# EAGLE library part STM32F405ZGT6 (library Rebel)
IC, MCU, 32BIT, 1MB FLASH, 144LQFP
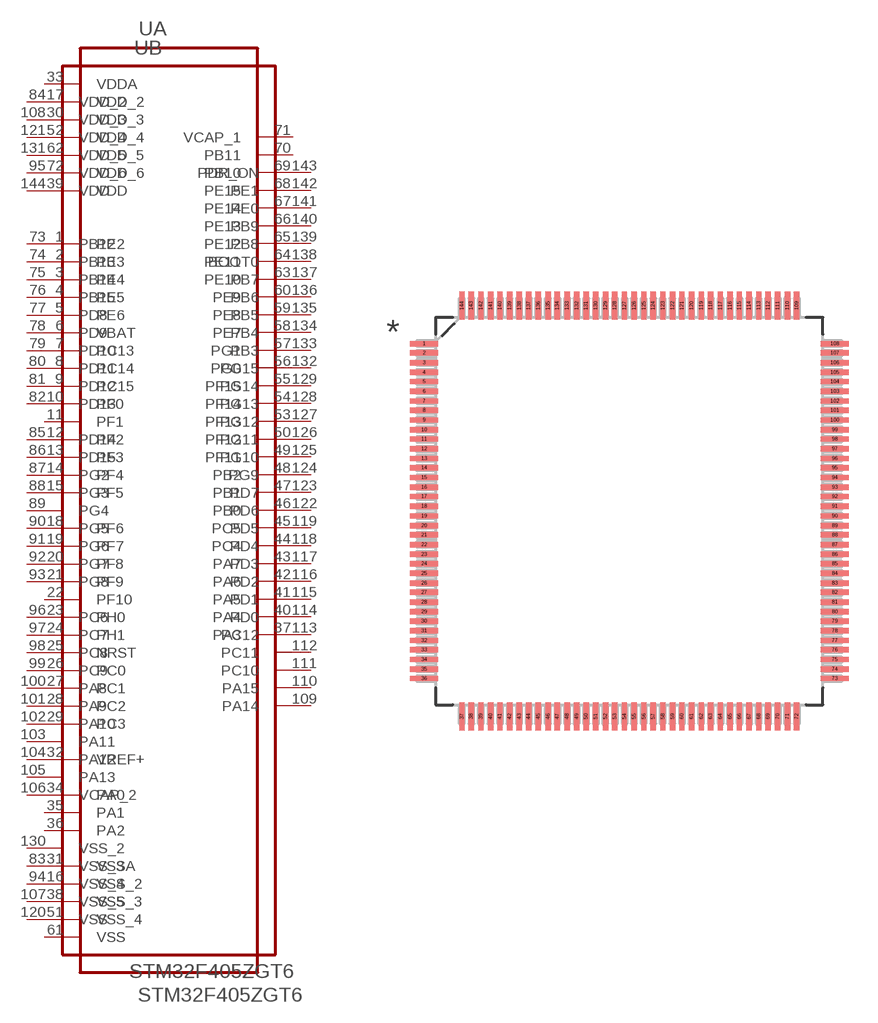
[diagram p3: symbol with the pads of QFP50P2200X2200X160-144N; footprint QFP50P2200X2200X160-144N]

Designator prefix U; gates A=STM32F405ZGT6_A B=STM32F405ZGT6_B

## STM32F405ZGT6 (MPN: STM32F405ZGT6; OC_FARNELL: 2215225; OC_NEWARK: 46W2200; PACKAGE: 144LQFP; SUPPLIER: STMicroelectronics)  [QFP50P2200X2200X160-144N]
1  A:PE2
2  A:PE3
3  A:PE4
4  A:PE5
5  A:PE6
6  A:VBAT  pas
7  A:PC13
8  A:PC14
9  A:PC15
10  A:PF0
11  A:PF1
12  A:PF2
13  A:PF3
14  A:PF4
15  A:PF5
16  A:VSS_2  pwr
17  A:VDD_2  pwr
18  A:PF6
19  A:PF7
20  A:PF8
21  A:PF9
22  A:PF10
23  A:PH0
24  A:PH1
25  A:NRST  pas
26  A:PC0
27  A:PC1
28  A:PC2
29  A:PC3
30  A:VDD_3  pwr
31  A:VSSA  pwr
32  A:VREF+  pas
33  A:VDDA  pwr
34  A:PA0
35  A:PA1
36  A:PA2
37  A:PA3
38  A:VSS_3  pwr
39  A:VDD  pwr
40  A:PA4
41  A:PA5
42  A:PA6
43  A:PA7
44  A:PC4
45  A:PC5
46  A:PB0
47  A:PB1
48  A:PB2
49  A:PF11
50  A:PF12
51  A:VSS_4  pwr
52  A:VDD_4  pwr
53  A:PF13
54  A:PF14
55  A:PF15
56  A:PG0
57  A:PG1
58  A:PE7
59  A:PE8
60  A:PE9
61  A:VSS  pwr
62  A:VDD_5  pwr
63  A:PE10
64  A:PE11
65  A:PE12
66  A:PE13
67  A:PE14
68  A:PE15
69  A:PB10
70  A:PB11
71  A:VCAP_1  pas
72  A:VDD_6  pwr
73  B:PB12
74  B:PB13
75  B:PB14
76  B:PB15
77  B:PD8
78  B:PD9
79  B:PD10
80  B:PD11
81  B:PD12
82  B:PD13
83  B:VSS_3  pwr
84  B:VDD_2  pwr
85  B:PD14
86  B:PD15
87  B:PG2
88  B:PG3
89  B:PG4
90  B:PG5
91  B:PG6
92  B:PG7
93  B:PG8
94  B:VSS_4  pwr
95  B:VDD_6  pwr
96  B:PC6
97  B:PC7
98  B:PC8
99  B:PC9
100  B:PA8
101  B:PA9
102  B:PA10
103  B:PA11
104  B:PA12
105  B:PA13
106  B:VCAP_2  pas
107  B:VSS_5  pwr
108  B:VDD_3  pwr
109  B:PA14
110  B:PA15
111  B:PC10
112  B:PC11
113  B:PC12
114  B:PD0
115  B:PD1
116  B:PD2
117  B:PD3
118  B:PD4
119  B:PD5
120  B:VSS  pwr
121  B:VDD_4  pwr
122  B:PD6
123  B:PD7
124  B:PG9
125  B:PG10
126  B:PG11
127  B:PG12
128  B:PG13
129  B:PG14
130  B:VSS_2  pwr
131  B:VDD_5  pwr
132  B:PG15
133  B:PB3
134  B:PB4
135  B:PB5
136  B:PB6
137  B:PB7
138  B:BOOT0  pas
139  B:PB8
140  B:PB9
141  B:PE0
142  B:PE1
143  B:PDR_ON  pas
144  B:VDD  pwr

## Footprint QFP50P2200X2200X160-144N (pad centres in mm)
smd 1.473 x 0.279: 1 -10.719,8.738; 2 -10.719,8.255; 3 -10.719,7.747; 4 -10.719,7.239; 5 -10.719,6.756; 6 -10.719,6.248; 7 -10.719,5.74; 8 -10.719,5.258; 9 -10.719,4.75; 10 -10.719,4.242; 11 -10.719,3.759; 12 -10.719,3.251; 13 -10.719,2.743; 14 -10.719,2.261; 15 -10.719,1.753; 16 -10.719,1.245; 17 -10.719,0.762; 18 -10.719,0.254; 19 -10.719,-0.254; 20 -10.719,-0.762; 21 -10.719,-1.245; 22 -10.719,-1.753; 23 -10.719,-2.261; 24 -10.719,-2.743; 25 -10.719,-3.251; 26 -10.719,-3.759; 27 -10.719,-4.242; 28 -10.719,-4.75; 29 -10.719,-5.258; 30 -10.719,-5.74; 31 -10.719,-6.248; 32 -10.719,-6.756; 33 -10.719,-7.239; 34 -10.719,-7.747; 35 -10.719,-8.255; 36 -10.719,-8.738; 73 10.719,-8.738; 74 10.719,-8.255; 75 10.719,-7.747; 76 10.719,-7.239; 77 10.719,-6.756; 78 10.719,-6.248; 79 10.719,-5.74; 80 10.719,-5.258; 81 10.719,-4.75; 82 10.719,-4.242; 83 10.719,-3.759; 84 10.719,-3.251; 85 10.719,-2.743; 86 10.719,-2.261; 87 10.719,-1.753; 88 10.719,-1.245; 89 10.719,-0.762; 90 10.719,-0.254; 91 10.719,0.254; 92 10.719,0.762; 93 10.719,1.245; 94 10.719,1.753; 95 10.719,2.261; 96 10.719,2.743; 97 10.719,3.251; 98 10.719,3.759; 99 10.719,4.242; 100 10.719,4.75; 101 10.719,5.258; 102 10.719,5.74; 103 10.719,6.248; 104 10.719,6.756; 105 10.719,7.239; 106 10.719,7.747; 107 10.719,8.255; 108 10.719,8.738
smd 0.279 x 1.473: 37 -8.738,-10.719; 38 -8.255,-10.719; 39 -7.747,-10.719; 40 -7.239,-10.719; 41 -6.756,-10.719; 42 -6.248,-10.719; 43 -5.74,-10.719; 44 -5.258,-10.719; 45 -4.75,-10.719; 46 -4.242,-10.719; 47 -3.759,-10.719; 48 -3.251,-10.719; 49 -2.743,-10.719; 50 -2.261,-10.719; 51 -1.753,-10.719; 52 -1.245,-10.719; 53 -0.762,-10.719; 54 -0.254,-10.719; 55 0.254,-10.719; 56 0.762,-10.719; 57 1.245,-10.719; 58 1.753,-10.719; 59 2.261,-10.719; 60 2.743,-10.719; 61 3.251,-10.719; 62 3.759,-10.719; 63 4.242,-10.719; 64 4.75,-10.719; 65 5.258,-10.719; 66 5.74,-10.719; 67 6.248,-10.719; 68 6.756,-10.719; 69 7.239,-10.719; 70 7.747,-10.719; 71 8.255,-10.719; 72 8.738,-10.719; 109 8.738,10.719; 110 8.255,10.719; 111 7.747,10.719; 112 7.239,10.719; 113 6.756,10.719; 114 6.248,10.719; 115 5.74,10.719; 116 5.258,10.719; 117 4.75,10.719; 118 4.242,10.719; 119 3.759,10.719; 120 3.251,10.719; 121 2.743,10.719; 122 2.261,10.719; 123 1.753,10.719; 124 1.245,10.719; 125 0.762,10.719; 126 0.254,10.719; 127 -0.254,10.719; 128 -0.762,10.719; 129 -1.245,10.719; 130 -1.753,10.719; 131 -2.261,10.719; 132 -2.743,10.719; 133 -3.251,10.719; 134 -3.759,10.719; 135 -4.242,10.719; 136 -4.75,10.719; 137 -5.258,10.719; 138 -5.74,10.719; 139 -6.248,10.719; 140 -6.756,10.719; 141 -7.239,10.719; 142 -7.747,10.719; 143 -8.255,10.719; 144 -8.738,10.719